# Altium schematic symbol library Jumper.SchLib: 9 symbols
Pins are listed as number, name and electrical type; pins without a type are passive.

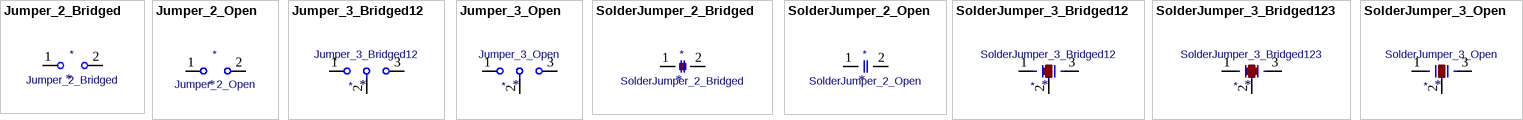
[diagram p0: symbols Jumper_2_Bridged to SolderJumper_3_Open]

## Jumper_2_Bridged
designator *  value Jumper_2_Bridged
ki_keywords: Jumper SPST; ki_description: Jumper, 2-pole, closed/bridged; ki_fp_filters: Jumper* TestPoint*2Pads* TestPoint*Bridge*; Supplier: ~
pins: 1 A, 2 B

## Jumper_2_Open
designator *  value Jumper_2_Open
ki_keywords: Jumper SPST; ki_description: Jumper, 2-pole, open; ki_fp_filters: Jumper* TestPoint*2Pads* TestPoint*Bridge*; Supplier: ~
pins: 1 A, 2 B

## Jumper_3_Bridged12
designator *  value Jumper_3_Bridged12
ki_keywords: Jumper SPDT; ki_description: Jumper, 3-pole, pins 1+2 closed/bridged; ki_fp_filters: Jumper* TestPoint*3Pads* TestPoint*Bridge*; Supplier: ~
pins: 1 A, 2 C, 3 B

## Jumper_3_Open
designator *  value Jumper_3_Open
ki_keywords: Jumper SPDT; ki_description: Jumper, 3-pole, both open; ki_fp_filters: Jumper* TestPoint*3Pads* TestPoint*Bridge*; Supplier: ~
pins: 1 A, 2 C, 3 B

## SolderJumper_2_Bridged
designator *  value SolderJumper_2_Bridged
ki_keywords: solder jumper SPST; ki_description: Solder Jumper, 2-pole, closed/bridged; ki_fp_filters: SolderJumper*Bridged*; Supplier: ~
pins: 1 A, 2 B

## SolderJumper_2_Open
designator *  value SolderJumper_2_Open
ki_keywords: solder jumper SPST; ki_description: Solder Jumper, 2-pole, open; ki_fp_filters: SolderJumper*Open*; Supplier: ~
pins: 1 A, 2 B

## SolderJumper_3_Bridged12
designator *  value SolderJumper_3_Bridged12
ki_keywords: Solder Jumper SPDT; ki_description: 3-pole Solder Jumper, pins 1+2 closed/bridged; ki_fp_filters: SolderJumper*Bridged12*; Supplier: ~
pins: 1 A, 2 C, 3 B

## SolderJumper_3_Bridged123
designator *  value SolderJumper_3_Bridged123
ki_keywords: Solder Jumper SPDT; ki_description: Solder Jumper, 3-pole, pins 1+2+3 closed/bridged; ki_fp_filters: SolderJumper*Bridged123*; Supplier: ~
pins: 1 A, 2 C, 3 B

## SolderJumper_3_Open
designator *  value SolderJumper_3_Open
ki_keywords: Solder Jumper SPDT; ki_description: Solder Jumper, 3-pole, open; ki_fp_filters: SolderJumper*Open*; Supplier: ~
pins: 1 A, 2 C, 3 B